# Altium schematic symbol library ProtoStack_H750VBT.SchLib: 84 symbols
Pins are listed as number, name and electrical type; pins without a type are passive.

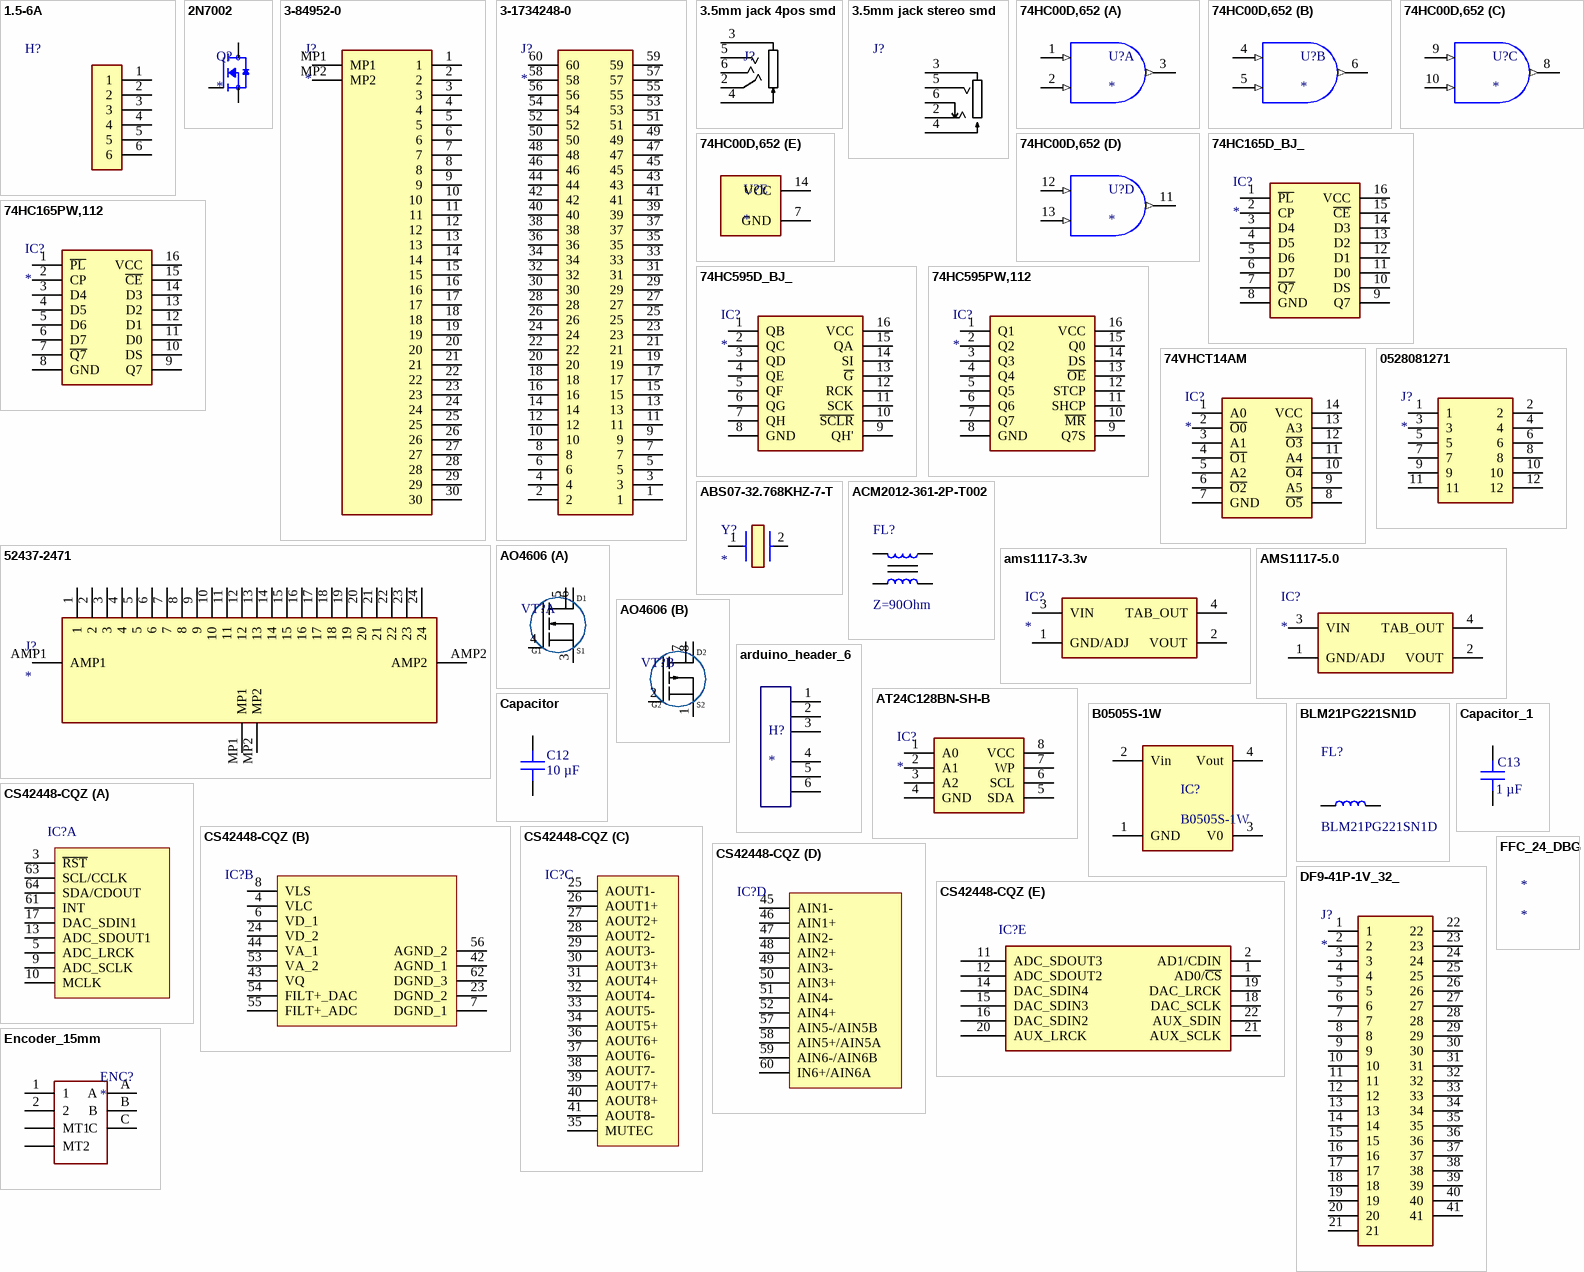
[diagram p0: symbols 1.5-6A to FFC_24_DBG]

## 1.5-6A
designator H?  (value not drawn)
Pin Header p=1.5mm, 6 pins
footprint 1.5-6A (Pin Header p=1.5mm, 6 pins)
pins: 1, 2, 3, 4, 5, 6

## 2N7002
designator Q?
MOSFET, SOT-23, N, 60V, 0.28A, 5â„¦, 150Â°C; MF: Diotec Semiconductor; MP: 2N7002; SnapEDA_Link: https://www.snapeda.com/parts/2N7002/Diotec/view-part/?ref=snap; Package: SOT-23 Diotec; Value: *; Check_prices: https://www.snapeda.com/parts/2N7002/Diotec/view-part/?ref=eda
footprint TRANS_2N7002
pins: 1 G, 2 S, 3 D

## 3-84952-0
designator J?
Connector; Manufacturer_Name: TE Connectivity; Manufacturer_Part_Number: 3-84952-0; Datasheet Link: https://www.te.com/commerce/DocumentDelivery/DDEController?Action=showdoc&DocId=Customer+Drawing%7F84952%7FA4%7Fpdf%7FEnglish%7FENG_CD_84952_A4.pdf%7F3-84952-0; Height: 2.74mm; Mouser Part Number: 571-3-84952-0; Mouser Price/Stock: https://www.mouser.com/Search/Refine.aspx?Keyword=571-3-84952-0
footprint 3849520
pins: 1, 2, 3, 4, 5, 6, 7, 8, 9, 10, 11, 12, 13, 14, 15, 16, 17, 18, 19, 20, 21, 22, 23, 24, 25, 26, 27, 28, 29, 30, MP1, MP2

## 3-1734248-0
designator J?
Connector; Manufacturer_Name: TE Connectivity; Manufacturer_Part_Number: 3-1734248-0; Datasheet Link: https://www.te.com/commerce/DocumentDelivery/DDEController?Action=srchrtrv&DocNm=5-1773461-0_Standard_FPC_Connectors_QRG&DocType=Data%20Sheet&DocLang=English&PartCntxt=3-1734248-0&DocFormat=pdf; Height: 7.7mm; Mouser Part Number: 571-3-1734248-0; Mouser Price/Stock: https://www.mouser.co.uk/ProductDetail/TE-Connectivity/3-1734248-0?qs=rVE9j%252BL6g1a4TQRjUuGYiA%3D%3D; Arrow Part Number: 3-1734248-0; Arrow Price/Stock: https://www.arrow.com/en/products/3-1734248-0/te-connectivity
footprint 317342480
pins: 1, 2, 3, 4, 5, 6, 7, 8, 9, 10, 11, 12, 13, 14, 15, 16, 17, 18, 19, 20, 21, 22, 23, 24, 25, 26, 27, 28, 29, 30, 31, 32, 33, 34, 35, 36, 37, 38, 39, 40, 41, 42, 43, 44, 45, 46, 47, 48, 49, 50, 51, 52, 53, 54, 55, 56, 57, 58, 59, 60

## 3.5mm jack 4pos smd
designator J?, comment PJ-327F  (value not drawn)
PJ-327F 4 contacts 5 pins 1 sw
footprint PJ-327F
pins: 2 G, 3 G, 4 Gsw, 5 R, 6 L

## 3.5mm jack stereo smd
designator J?, comment 35RASMT2BHNTRX  (value not drawn)
Conn 3.5MM Stereo Jack F 3 POS Solder RA SMD 3 Terminal 1 Port T/R PJ-327; MF: Switchcraft; MP: 35RASMT2BHNTRX; Package: None; Price: 0.84 USD; Availability: Good; SnapEDA_Link: https://www.snapeda.com/parts/35RASMT2BHNTRX/Switchcraft%20Inc./view-part/?ref=snap; Value: *
footprint PJ_327
pins: 2, 3 1, 4 5, 5 3, 6 4

## 74HC00D,652
designator U?
NAND Gate IC 4 Channel - 14-SO; MF: Nexperia USA; MP: 74HC00D,652; SnapEDA_Link: https://www.snapeda.com/parts/74HC00D,652/Nexperia/view-part/?ref=snap; Package: SO14-14 Nexperia USA Inc.; Value: *; Check_prices: https://www.snapeda.com/parts/74HC00D,652/Nexperia/view-part/?ref=eda
footprint SOP125P600X175-14N
part A pins: 1 1A (in), 2 1B (in), 3 1Y (out)
part B pins: 4 2A (in), 5 2B (in), 6 2Y (out)
part C pins: 8 3Y (out), 9 3A (in), 10 3B (in)
part D pins: 11 4Y (out), 12 4A (in), 13 4B (in)
part E pins: 7 GND (power), 14 VCC (power)

## 74HC165D_BJ_
designator IC?
Integrated Circuit; Manufacturer_Name: Toshiba; Manufacturer_Part_Number: 74HC165D(BJ); Datasheet Link: https://www.arrow.com/en/products/74hc165d-bj/toshiba?region=nac; Height: 1.75mm; Mouser Part Number: 757-74HC165DBJ; Mouser Price/Stock: https://www.mouser.co.uk/ProductDetail/Toshiba/74HC165DBJ?qs=lQAVKuKFhkJom8fGze1o7Q%3D%3D; Arrow Part Number: 74HC165D(BJ); Arrow Price/Stock: https://www.arrow.com/en/products/74hc165d-bj/toshiba?region=nac
footprint SOIC127P600X175-16N
pins: 1 ~{PL}, 2 CP, 3 D4, 4 D5, 5 D6, 6 D7, 7 ~{Q7}, 8 GND, 9 Q7, 10 DS, 11 D0, 12 D1, 13 D2, 14 D3, 15 ~{CE}, 16 VCC

## 74HC165PW,112
designator IC?
Integrated Circuit; Manufacturer_Name: Nexperia; Manufacturer_Part_Number: 74HC165PW,112; Datasheet Link: https://assets.nexperia.com/documents/data-sheet/74HC_HCT165.pdf; Height: 1.1mm; Mouser Part Number: 771-HC165PW112; Mouser Price/Stock: https://www.mouser.com/Search/Refine.aspx?Keyword=771-HC165PW112; Arrow Part Number: 74HC165PW,112; Arrow Price/Stock: https://www.arrow.com/en/products/74hc165pw112/nexperia
footprint SOP65P640X110-16N
pins: 1 ~{PL}, 2 CP, 3 D4, 4 D5, 5 D6, 6 D7, 7 ~{Q7}, 8 GND, 9 Q7, 10 DS, 11 D0, 12 D1, 13 D2, 14 D3, 15 ~{CE}, 16 VCC

## 74HC595D_BJ_
designator IC?
Integrated Circuit; Manufacturer_Name: Toshiba; Manufacturer_Part_Number: 74HC595D(BJ); Datasheet Link: https://componentsearchengine.com/Datasheets/1/74HC595D(BJ).pdf; Height: 1.75mm; Mouser Part Number: 757-74HC595DBJ; Mouser Price/Stock: https://www.mouser.co.uk/ProductDetail/Toshiba/74HC595DBJ?qs=T%2FywbITssnTkqd02WdSNRg%3D%3D; Arrow Part Number: 74HC595D(BJ); Arrow Price/Stock: https://www.arrow.com/en/products/74hc595d-bj/toshiba?region=nac
footprint SOIC127P600X175-16N
pins: 1 QB, 2 QC, 3 QD, 4 QE, 5 QF, 6 QG, 7 QH, 8 GND, 9 QH', 10 ~{SCLR}, 11 SCK, 12 RCK, 13 ~{G}, 14 SI, 15 QA, 16 VCC

## 74HC595PW,112
designator IC?
Integrated Circuit; Manufacturer_Name: Nexperia; Manufacturer_Part_Number: 74HC595PW,112; Datasheet Link: https://assets.nexperia.com/documents/data-sheet/74HC_HCT595.pdf; Height: 1.1mm; Mouser Part Number: 771-HC595PW112; Mouser Price/Stock: https://www.mouser.co.uk/ProductDetail/Nexperia/74HC595PW112?qs=P62ublwmbi%252BCa4lw1q3VNw%3D%3D; Arrow Part Number: 74HC595PW,112; Arrow Price/Stock: https://www.arrow.com/en/products/74hc595pw112/nexperia?region=nac
footprint SOP65P640X110-16N
pins: 1 Q1, 2 Q2, 3 Q3, 4 Q4, 5 Q5, 6 Q6, 7 Q7, 8 GND, 9 Q7S, 10 ~{MR}, 11 SHCP, 12 STCP, 13 ~{OE}, 14 DS, 15 Q0, 16 VCC

## 74VHCT14AM
designator IC?
Integrated Circuit; Manufacturer_Name: onsemi; Manufacturer_Part_Number: 74VHCT14AM; Datasheet Link: https://docs.rs-online.com/5e2e/0900766b812cf5b5.pdf; Height: 1.75mm; Mouser Part Number: 512-74VHCT14AM; Mouser Price/Stock: https://www.mouser.com/Search/Refine.aspx?Keyword=512-74VHCT14AM; Arrow Part Number: 74VHCT14AM; Arrow Price/Stock: https://www.arrow.com/en/products/74vhct14am/on-semiconductor
footprint SOIC127P600X175-14N
pins: 1 A0, 2 ~{O0}, 3 A1, 4 ~{O1}, 5 A2, 6 ~{O2}, 7 GND, 8 ~{O5}, 9 A5, 10 ~{O4}, 11 A4, 12 ~{O3}, 13 A3, 14 VCC

## 52437-2471
designator J?
Connector; Manufacturer_Name: Molex; Manufacturer_Part_Number: 52437-2471; Datasheet Link: https://componentsearchengine.com/Datasheets/2/52437-2471.pdf; Height: 2mm; Mouser Part Number: 538-52437-2471; Mouser Price/Stock: https://www.mouser.co.uk/ProductDetail/Molex/52437-2471?qs=nDwhpid8gJZdpyQIeZfjsA%3D%3D
footprint 524372471
pins: 1, 2, 3, 4, 5, 6, 7, 8, 9, 10, 11, 12, 13, 14, 15, 16, 17, 18, 19, 20, 21, 22, 23, 24, AMP1, AMP2, MP1, MP2

## 0528081271
designator J?
Connector; Manufacturer_Name: Molex; Manufacturer_Part_Number: 0528081271; Datasheet Link: https://www.molex.com/pdm_docs/sd/528082071_sd.pdf; Height: 5.3mm
footprint 0528081271
footprint AFA11-S12GLA-00
pins: 1, 2, 3, 4, 5, 6, 7, 8, 9, 10, 11, 12

## ABS07-32.768KHZ-7-T
designator Y?
Crystal or Oscillator; Manufacturer_Name: ABRACON; Manufacturer_Part_Number: ABS07-32.768KHZ-7-T; Datasheet Link: https://abracon.com/Resonators/ABS07.pdf; Height: 0.9mm; Mouser Part Number: 815-ABS07-32.768K7T; Mouser Price/Stock: https://www.mouser.co.uk/ProductDetail/ABRACON/ABS07-32.768KHZ-7-T?qs=2nyfZ6BV3oibNEFok2qBLA%3D%3D; Arrow Part Number: ABS07-32.768KHZ-7-T; Arrow Price/Stock: https://www.arrow.com/en/products/abs07-32.768khz-7-t/abracon?region=nac
footprint ABS07
pins: 1, 2

## ACM2012-361-2P-T002
designator FL?, comment Z=90Ohm
ACM Series 0805 360 Ohm 220mA 500 mOhm DCR 50 V SMT Common Mode Filter; MP: ACM2012-361-2P-T002; MF: TDK; Price: 0.24 USD; Package: None; Availability: Good; Value: *
footprint FIL_ACM2012-361-2P-T002
pins: 1, 2, 3, 4

## ams1117-3.3v
designator IC?
Integrated Circuit; Manufacturer_Name: Advanced Monolithic Systems; Manufacturer_Part_Number: ams1117-3.3v; Datasheet Link: http://www.advanced-monolithic.com/pdf/ds1117.pdf; Height: 1.8mm; Supplier 1: LCSC
footprint SOT-223
footprint SOT-89
pins: 1 GND/ADJ, 2 VOUT, 3 VIN, 4 TAB_OUT

## AMS1117-5.0
designator IC?
Integrated Circuit; Manufacturer_Name: Advanced Monolithic Systems; Manufacturer_Part_Number: AMS1117-5.0; Datasheet Link: http://www.advanced-monolithic.com/pdf/ds1117.pdf; Height: 1.8mm
footprint SOT-223
footprint SOT-89
pins: 1 GND/ADJ, 2 VOUT, 3 VIN, 4 TAB_OUT

## AO4606
designator VT?  (value not drawn)
MOSFET N+P-channel; Manufacturer_Name: Alpha & Omega Semiconductors; Datasheet Link: https://datasheet.datasheetarchive.com/originals/distributors/Datasheets-AOS/DSAAOS100079.pdf; Height: 1.75mm; Manufacturer_Part_Number: AO4606; Arrow Part Number: AO4606; Arrow Price/Stock: https://www.arrow.com/en/products/ao4606/alpha-and-omega-semiconductor?region=nac
footprint SOIC127P600X175-8N
part A pins: 3 S1, 4 G1, 5 D1, 6 D1
part B pins: 1 S2, 2 G2, 7 D2, 8 D2

## arduino_header_6
designator H?
footprint header-6_male
footprint header-6_female
pins: 1, 2, 3, 4, 5, 6

## AT24C128BN-SH-B
designator IC?
Integrated Circuit; Manufacturer_Name: Microchip; Manufacturer_Part_Number: AT24C128BN-SH-B; Datasheet Link: https://componentsearchengine.com/Datasheets/1/AT24C128BN-SH-B.pdf; Height: 1.75mm; Mouser Part Number: 556-A24C128BNSH-B; Mouser Price/Stock: https://www.mouser.co.uk/ProductDetail/Microchip-Technology-Atmel/AT24C128BN-SH-B?qs=j6lVIf5KywAfpl9r4qbAuQ%3D%3D
footprint SOIC127P600X175-8N
pins: 1 A0, 2 A1, 3 A2, 4 GND, 5 SDA, 6 SCL, 7 WP, 8 VCC

## B0505S-1W
designator IC?
Mournsun / JGCRYT DC-DC isolated converter module 5v -> 5v 1W
footprint B0505S-1W (DC-DC module)
pins: 1 GND, 2 Vin, 3 V0, 4 Vout

## BLM21PG221SN1D
designator FL?
ACM Series 0805 360 Ohm 220mA 500 mOhm DCR 50 V SMT Common Mode Filter
footprint 0805_IND
pins: 1, 2

## Capacitor
designator C12, comment 10 µF
CAP CER 10UF 10V X5R 0805; Part Number: C0805C106K8PAC7800; manufacturer: KEMET; Tolerance: ±10%; Applications: Bypass, Decoupling; Capacitance: 10 µF; componentlink1description: Datasheet; componentlink1url: https://connect.kemet.com:7667/gateway/IntelliData-ComponentDocumentation/1.0/download/datasheet/C0805C106K8PACTU; componentlink2description: DigiKey Link; componentlink2url: https://www.digikey.com/en/products/detail/kemet/C0805C106K8PAC7800/1090830; Device Package: 0805 (2012 Metric); lastupdated: 9/14/2022 7:51:56 AM; Lifecycle Status: Active; Minimum Order: 1; Mounting Type: Surface Mount, MLCC; Operating Temperature: -55°C ~ 85°C; Package / Case: 0805 (2012 Metric); packaging: TapeAndReel; partid: 44790; Part Status: Active; price: 0.02; series: SMD Comm X5R; Size / Dimension: 0.079" L x 0.049" W (2.00mm x 1.25mm); Supplier 1: DigiKey; Supplier Part Number 1: 399-C0805C106K8PAC7800CT-ND; Temperature Coefficient: X5R; Thickness (Max): 0.055" (1.40mm); Voltage - Rated: 10V; Value: 10 µF
footprint CAP 0805_2012
pins: 1, 2

## Capacitor_1
designator C13, comment 1 µF
CAP CER 1UF 16V X7R 0805; Part Number: C0805C105K4RAC7800; manufacturer: KEMET; Tolerance: ±10%; Applications: Bypass, Decoupling; Capacitance: 1 µF; componentlink1description: Datasheet; componentlink1url: https://api.kemet.com/component-edge/download/datasheet/C0805C105K4RACTU.pdf; componentlink2description: DigiKey Link; componentlink2url: https://www.digikey.com/en/products/detail/kemet/C0805C105K4RAC7800/416047; Device Package: 0805 (2012 Metric); lastupdated: 9/19/2022 1:03:30 PM; Lifecycle Status: Active; Minimum Order: 1; Mounting Type: Surface Mount, MLCC; Operating Temperature: -55°C ~ 125°C; Package / Case: 0805 (2012 Metric); packaging: TapeAndReel; partid: 32075; Part Status: Active; price: 0.01; series: SMD Comm X7R; Size / Dimension: 0.079" L x 0.049" W (2.00mm x 1.25mm); Supplier 1: DigiKey; Supplier Part Number 1: 399-C0805C105K4RAC7800CT-ND; Temperature Coefficient: X7R; Thickness (Max): 0.039" (1.00mm); Voltage - Rated: 16V; Value: 1 µF
footprint CAP 0805_2012
pins: 1, 2

## CS42448-CQZ
designator IC?  (value not drawn)
Integrated Circuit; Manufacturer_Name: Cirrus Logic; Manufacturer_Part_Number: CS42448-CQZ; Datasheet Link: http://www.mouser.com/datasheet/2/76/CS42448_F5-1141475.pdf; Height: 1.6mm; Mouser Part Number: 777-CS42448-CQZ; Mouser Price/Stock: https://www.mouser.co.uk/ProductDetail/Cirrus-Logic/CS42448-CQZ?qs=bUPhaerQQeGUnfo%252BYCcmZw%3D%3D
footprint QFP50P1200X1200X160-64N
part A pins: 3 ~{RST}, 5 ADC_LRCK, 9 ADC_SCLK, 10 MCLK, 13 ADC_SDOUT1, 17 DAC_SDIN1, 61 INT, 63 SCL/CCLK, 64 SDA/CDOUT
part B pins: 4 VLC, 6 VD_1, 7 DGND_1, 8 VLS, 23 DGND_2, 24 VD_2, 42 AGND_1, 43 VQ, 44 VA_1, 53 VA_2, 54 FILT+_DAC, 55 FILT+_ADC, 56 AGND_2, 62 DGND_3
part C pins: 25 AOUT1-, 26 AOUT1+, 27 AOUT2+, 28 AOUT2-, 29 AOUT3-, 30 AOUT3+, 31 AOUT4+, 32 AOUT4-, 33 AOUT5-, 34 AOUT5+, 35 MUTEC, 36 AOUT6+, 37 AOUT6-, 38 AOUT7-, 39 AOUT7+, 40 AOUT8+, 41 AOUT8-
part D pins: 45 AIN1-, 46 AIN1+, 47 AIN2-, 48 AIN2+, 49 AIN3-, 50 AIN3+, 51 AIN4-, 52 AIN4+, 57 AIN5-/AIN5B, 58 AIN5+/AIN5A, 59 AIN6-/AIN6B, 60 IN6+/AIN6A
part E pins: 1 AD0/~{CS}, 2 AD1/CDIN, 11 ADC_SDOUT3, 12 ADC_SDOUT2, 14 DAC_SDIN4, 15 DAC_SDIN3, 16 DAC_SDIN2, 18 DAC_SCLK, 19 DAC_LRCK, 20 AUX_LRCK, 21 AUX_SCLK, 22 AUX_SDIN

## DF9-41P-1V_32_
designator J?
Connector; Manufacturer_Name: Hirose; Manufacturer_Part_Number: DF9-41P-1V(32); Datasheet Link: http://componentsearchengine.com/Datasheets/1/DF9-41P-1V(32).pdf; Mouser Part Number: 798-DF9-41P-1V32; Mouser Price/Stock: https://www.mouser.co.uk/ProductDetail/Hirose-Connector/DF9-41P-1V32?qs=zOgoZG1CgI%252BzVCgniEkwOw%3D%3D; Arrow Part Number: DF9-41P-1V(32); Arrow Price/Stock: https://www.arrow.com/en/products/df9-41p-1v-32/hirose-electric
footprint HIROSE_DF9-41P-1V(32)
pins: 1, 2, 3, 4, 5, 6, 7, 8, 9, 10, 11, 12, 13, 14, 15, 16, 17, 18, 19, 20, 21, 22, 23, 24, 25, 26, 27, 28, 29, 30, 31, 32, 33, 34, 35, 36, 37, 38, 39, 40, 41

## Encoder_15mm
designator ENC?
footprint EC11_15mm
pins: 1, 2, A, B, C, MT1, MT2

## FFC_24_DBG
designator *

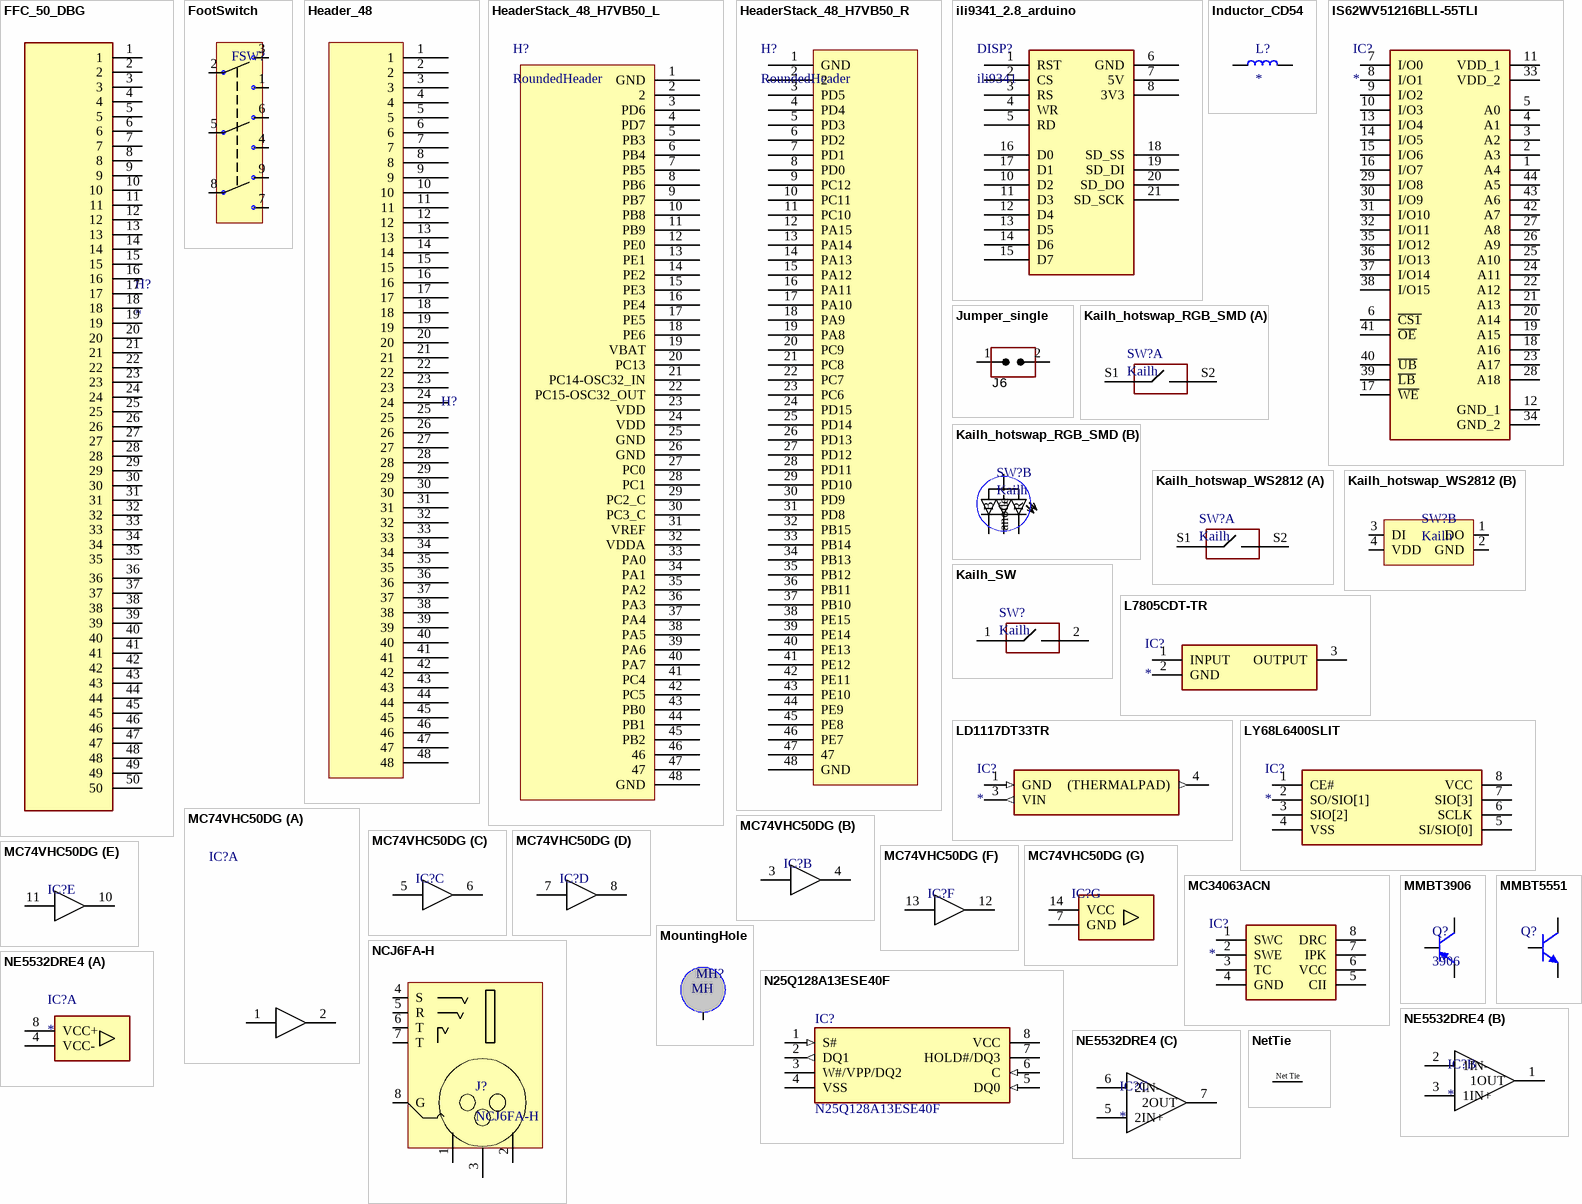
[diagram p1: symbols FFC_50_DBG to NetTie]

## FFC_50_DBG
designator H?
footprint FFC_50_DBG
footprint EDGE_PAD_50
pins: 1, 2, 3, 4, 5, 6, 7, 8, 9, 10, 11, 12, 13, 14, 15, 16, 17, 18, 19, 20, 21, 22, 23, 24, 25, 26, 27, 28, 29, 30, 31, 32, 33, 34, 35, 36, 37, 38, 39, 40, 41, 42, 43, 44, 45, 46, 47, 48, 49, 50

## FootSwitch
designator FSW?  (value not drawn)
footprint FOOTSW
pins: 1, 2, 3, 4, 5, 6, 7, 8, 9

## Header_48
designator H?, comment male pin header  (value not drawn)
footprint Header_48
pins: 1, 2, 3, 4, 5, 6, 7, 8, 9, 10, 11, 12, 13, 14, 15, 16, 17, 18, 19, 20, 21, 22, 23, 24, 25, 26, 27, 28, 29, 30, 31, 32, 33, 34, 35, 36, 37, 38, 39, 40, 41, 42, 43, 44, 45, 46, 47, 48

## HeaderStack_48_H7VB50_L
designator H?, comment RoundedHeader
footprint HeaderDtack_48
pins: 1 GND, 2, 3 PD6, 4 PD7, 5 PB3, 6 PB4, 7 PB5, 8 PB6, 9 PB7, 10 PB8, 11 PB9, 12 PE0, 13 PE1, 14 PE2, 15 PE3, 16 PE4, 17 PE5, 18 PE6, 19 VBAT, 20 PC13, 21 PC14-OSC32_IN, 22 PC15-OSC32_OUT, 23 VDD, 24 VDD, 25 GND, 26 GND, 27 PC0, 28 PC1, 29 PC2_C, 30 PC3_C, 31 VREF, 32 VDDA, 33 PA0, 34 PA1, 35 PA2, 36 PA3, 37 PA4, 38 PA5, 39 PA6, 40 PA7, 41 PC4, 42 PC5, 43 PB0, 44 PB1, 45 PB2, 46, 47, 48 GND

## HeaderStack_48_H7VB50_R
designator H?, comment RoundedHeader
footprint HeaderDtack_48
pins: 1 GND, 2, 3 PD5, 4 PD4, 5 PD3, 6 PD2, 7 PD1, 8 PD0, 9 PC12, 10 PC11, 11 PC10, 12 PA15, 13 PA14, 14 PA13, 15 PA12, 16 PA11, 17 PA10, 18 PA9, 19 PA8, 20 PC9, 21 PC8, 22 PC7, 23 PC6, 24 PD15, 25 PD14, 26 PD13, 27 PD12, 28 PD11, 29 PD10, 30 PD9, 31 PD8, 32 PB15, 33 PB14, 34 PB13, 35 PB12, 36 PB11, 37 PB10, 38 PE15, 39 PE14, 40 PE13, 41 PE12, 42 PE11, 43 PE10, 44 PE9, 45 PE8, 46 PE7, 47, 48 GND

## ili9341_2.8_arduino
designator DISP?, comment ili9341
footprint ili9341_2.8_arduino
pins: 1 RST, 2 CS, 3 RS, 4 WR, 5 RD, 6 GND, 7 5V, 8 3V3, 10 D2, 11 D3, 12 D4, 13 D5, 14 D6, 15 D7, 16 D0, 17 D1, 18 SD_SS, 19 SD_DI, 20 SD_DO, 21 SD_SCK

## Inductor_CD54
designator L?
Aliexpress CD54 type inductor
footprint IND_CD54
pins: 1, 2

## IS62WV51216BLL-55TLI
designator IC?
Integrated Circuit; Manufacturer_Name: Integrated Silicon Solution Inc.; Manufacturer_Part_Number: IS62WV51216BLL-55TLI; Datasheet Link: https://componentsearchengine.com/Datasheets/2/IS62WV51216BLL-55TLI.pdf; Height: 1.2mm; Mouser Part Number: 87062WV51216BLL55TLI; Mouser Price/Stock: https://www.mouser.co.uk/ProductDetail/ISSI/IS62WV51216BLL-55TLI?qs=YdQ7Kj7W0byDjYr5MgPCkw%3D%3D; Arrow Part Number: IS62WV51216BLL-55TLI; Arrow Price/Stock: https://www.arrow.com/en/products/is62wv51216bll-55tli/integrated-silicon-solution-inc
footprint SOP80P1176X120-44N
pins: 1 A4, 2 A3, 3 A2, 4 A1, 5 A0, 6 ~{CS1}, 7 I/O0, 8 I/O1, 9 I/O2, 10 I/O3, 11 VDD_1, 12 GND_1, 13 I/O4, 14 I/O5, 15 I/O6, 16 I/O7, 17 ~{WE}, 18 A16, 19 A15, 20 A14, 21 A13, 22 A12, 23 A17, 24 A11, 25 A10, 26 A9, 27 A8, 28 A18, 29 I/O8, 30 I/O9, 31 I/O10, 32 I/O11, 33 VDD_2, 34 GND_2, 35 I/O12, 36 I/O13, 37 I/O14, 38 I/O15, 39 ~{LB}, 40 ~{UB}, 41 ~{OE}, 42 A7, 43 A6, 44 A5

## Jumper_single
designator J6
CommentText: "Перемычка"
footprint CON: JUMPER x1
footprint CON: PLS-2
pins: 1 IN, 2 IN

## Kailh_hotswap_RGB_SMD
designator SW?, comment Kailh
Kailh keyboard switch, hotswap rgb, dual-side hotswap options + low prifile variant
footprint KAILH_MX_SOCKET_smdRGB
footprint KAILH_UNI_MX_smdRGB (Universal footprint for low-profile and regular switches, direct solder. Kailh RGB Black also supported without led)
part A pins: S1 1, S2 2
part B pins: 1 R, 2 G, 3 anode, 4 B

## Kailh_hotswap_WS2812
designator SW?, comment Kailh
Kailh keyboard switch, hotswap rgb, dual-side hotswap options + low prifile variant
footprint KAILH_UNI_MX_WS2812 (Universal footprint for low-profile and regular switches, direct solder. Kailh RGB Black also supported without led, LED is ws2812 in 2020 package)
part A pins: S1 1, S2 2
part B pins: 1 DO, 2 GND, 3 DI, 4 VDD

## Kailh_SW
designator SW?, comment Kailh
Kailh keyboard switch
footprint Kailh_Low
footprint Kailh_RGB
pins: 1, 2

## L7805CDT-TR
designator IC?
Integrated Circuit; Manufacturer_Name: STMicroelectronics; Manufacturer_Part_Number: L7805CDT-TR; Datasheet Link: https://componentsearchengine.com/Datasheets/2/L7805CDT-TR.pdf; Height: 2.63mm; Mouser Part Number: 511-L7805CDT-TR; Mouser Price/Stock: https://www.mouser.co.uk/ProductDetail/STMicroelectronics/L7805CDT-TR?qs=gq%2F78KzUDX67VndS%2FbSB4Q%3D%3D; Arrow Part Number: L7805CDT-TR; Arrow Price/Stock: https://www.arrow.com/en/products/l7805cdt-tr/stmicroelectronics?region=europe
footprint L7805CDTTR
pins: 1 INPUT, 2 GND, 3 OUTPUT

## LD1117DT33TR
designator IC?
Integrated Circuit; Manufacturer_Name: STMicroelectronics; Manufacturer_Part_Number: LD1117DT33TR; Datasheet Link: http://www.st.com/web/en/resource/technical/document/datasheet/CD00000544.pdf; Height: 2.4mm; Mouser Part Number: 511-LD1117DT33-TR; Mouser Price/Stock: https://www.mouser.co.uk/ProductDetail/STMicroelectronics/LD1117DT33TR?qs=4JhUBQGAOSd4P5jVYGxp2g%3D%3D; Arrow Part Number: LD1117DT33TR; Arrow Price/Stock: https://www.arrow.com/en/products/ld1117dt33tr/stmicroelectronics?region=nac
footprint TO228P972X240-3N
pins: 1 GND (in), 3 VIN (out), 4 (THERMALPAD) (out)

## LY68L6400SLIT
designator IC?
Integrated Circuit; Manufacturer_Name: Lyontek Inc.; Manufacturer_Part_Number: LY68L6400SLIT; Datasheet Link: https://datasheet.lcsc.com/szlcsc/Lyontek-Inc-LY68L6400SLIT_C261881.pdf; Height: 1.75mm
footprint SOIC127P600X175-8N
pins: 1 CE#, 2 SO/SIO[1], 3 SIO[2], 4 VSS, 5 SI/SIO[0], 6 SCLK, 7 SIO[3], 8 VCC

## MC74VHC50DG
designator IC?  (value not drawn)
Integrated Circuit; Manufacturer_Name: onsemi; Manufacturer_Part_Number: MC74VHC50DG; Datasheet Link: http://www.onsemi.com/pub/Collateral/MC74VHC50-D.PDF; Height: 1.75mm; Mouser Part Number: 863-MC74VHC50DG; Mouser Price/Stock: https://www.mouser.com/Search/Refine.aspx?Keyword=863-MC74VHC50DG
footprint SOIC127P600X175-14N
part A pins: 1 A1, 2 Y1
part B pins: 3 A2, 4 Y2
part C pins: 5 A3, 6 Y3
part D pins: 7 A4, 8 Y4
part E pins: 10 Y5, 11 A5
part F pins: 12 Y6, 13 A6
part G pins: 7 GND, 14 VCC

## MC34063ACN
designator IC?
Integrated Circuit; Manufacturer_Name: STMicroelectronics; Manufacturer_Part_Number: MC34063ACN; Datasheet Link: http://www.st.com/web/en/resource/technical/document/datasheet/CD00001232.pdf; Height: 4.8mm; Mouser Part Number: 511-MC34063ACN; Mouser Price/Stock: https://www.mouser.co.uk/ProductDetail/STMicroelectronics/MC34063ACN?qs=9NrABl3fj%2FpdpcH%2FE0gWdg%3D%3D; Arrow Part Number: MC34063ACN; Arrow Price/Stock: https://www.arrow.com/en/products/mc34063acn/stmicroelectronics?region=europe
footprint DIP762W50P254L980H480Q8N
footprint SOIC127P600X175-8N
pins: 1 SWC, 2 SWE, 3 TC, 4 GND, 5 CII, 6 VCC, 7 IPK, 8 DRC

## MMBT3906
designator Q?, comment 3906
footprint SOT-23
pins: 1 B, 2 E, 3 C

## MMBT5551
designator Q?  (value not drawn)
footprint SOT-23
pins: 1 B, 2 E, 3 C

## MountingHole
designator MH?
footprint Hole_2.5mm
footprint Hole_3mm
pins: 0
text: MH

## N25Q128A13ESE40F
designator IC?
Integrated Circuit; Manufacturer_Name: Micron; Datasheet Link: https://datasheet.datasheetarchive.com/originals/distributors/Datasheets-DGA23/1494983.pdf; Height: 2.16mm; Manufacturer_Part_Number: N25Q128A13ESE40F; Mouser Part Number: 340-182267; Mouser Price/Stock: https://www.mouser.co.uk/ProductDetail/Micron/N25Q128A13ESE40F?qs=taEdVNyAfdHw8xv9Y4zfpQ%3D%3D; Arrow Part Number: N25Q128A13ESE40F; Arrow Price/Stock: https://www.arrow.com/en/products/n25q128a13ese40f/micron-technology
footprint SOIC127P790X216-8N
pins: 1 S# (in), 2 DQ1 (out), 3 W#/VPP/DQ2, 4 VSS (power), 5 DQ0 (in), 6 C (in), 7 HOLD#/DQ3, 8 VCC (power)

## NCJ6FA-H
designator J?
XLR Neutrik NCJ6FA-H
footprint NCJ6FA-H (Neutrik NCJ6FA-H)
footprint ACJC10HL (https://www.digikey.nl/en/products/detail/amphenol-sine-systems-corp/ACJC10HL-BULK/13577736?s=N4IgTCBcDaIIIGEBSCCMAGAEgGRAXQF8g)
pins: 1, 2, 3, 4 S, 5 R, 6 T, 7 T, 8 G

## NE5532DRE4
designator IC?
Integrated Circuit; Manufacturer_Name: Texas Instruments; Manufacturer_Part_Number: NE5532DRE4; Datasheet Link: https://www.ti.com/lit/ds/symlink/ne5532.pdf?HQS=dis-mous-null-mousermode-dsf-pf-null-wwe&ts=1618482303902&ref_url=https%253A%252F%252Fwww.mouser.com%252F; Height: 1.75mm; Mouser Part Number: 595-NE5532DRE4; Mouser Price/Stock: https://www.mouser.co.uk/ProductDetail/Texas-Instruments/NE5532DRE4?qs=7nS3%252BbEUL6spPf9Rt7S6cg%3D%3D; Arrow Part Number: NE5532DRE4; Arrow Price/Stock: https://www.arrow.com/en/products/ne5532dre4/texas-instruments
footprint SOIC127P600X175-8N
part A pins: 4 VCC-, 8 VCC+
part B pins: 1 1OUT, 2 1IN-, 3 1IN+
part C pins: 5 2IN+, 6 2IN-, 7 2OUT

## NetTie
designator NT?  (value not drawn)  (net tie, no BOM)
footprint NetTie11
pins: 1 30, 2 31
text: Net Tie

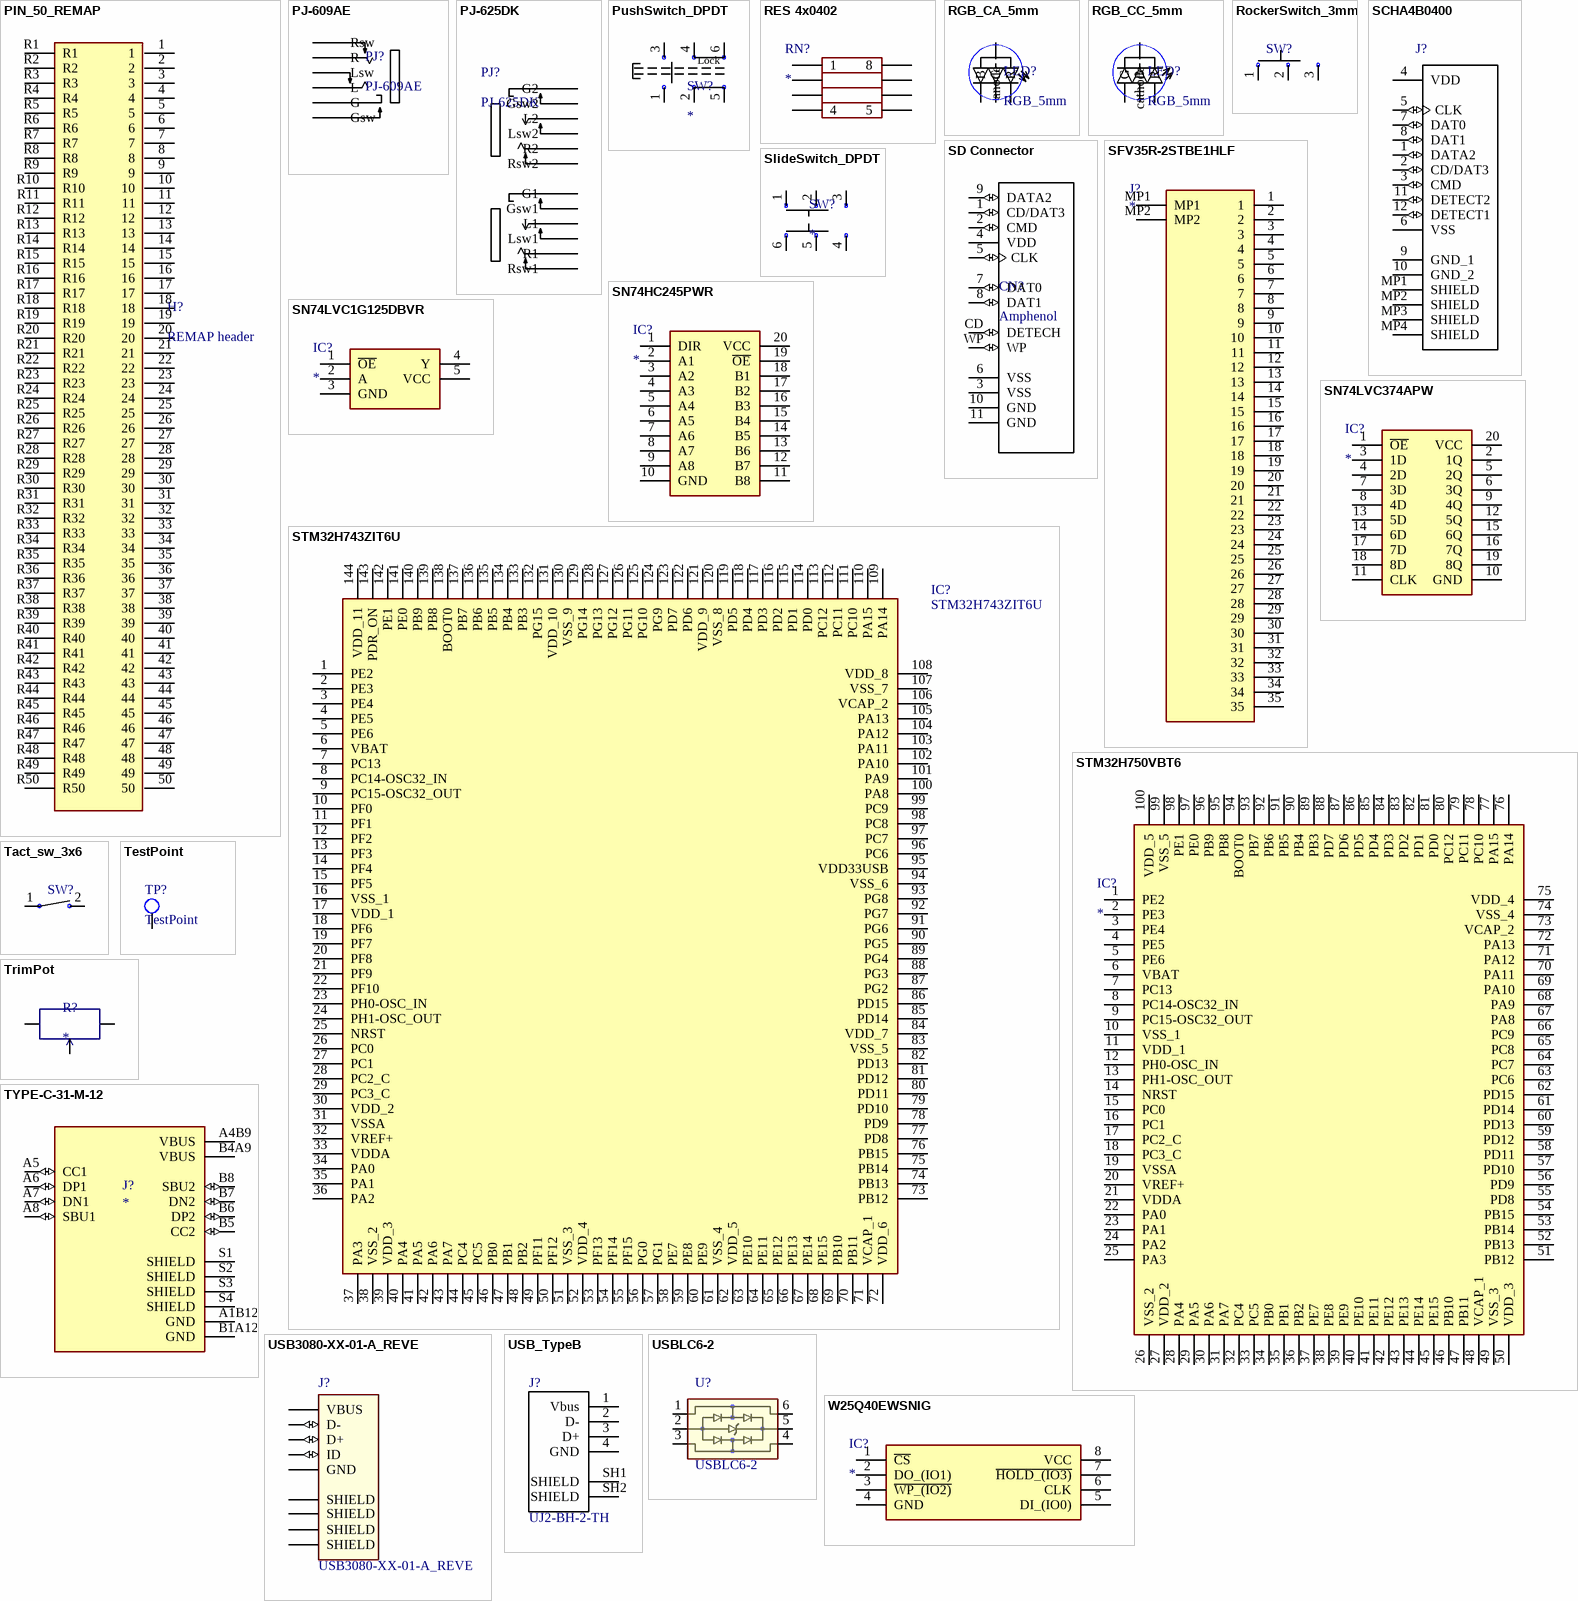
[diagram p2: symbols PIN_50_REMAP to W25Q40EWSNIG]

## PIN_50_REMAP
designator H?, comment REMAP header
footprint REMAP_50
pins: 1, 2, 3, 4, 5, 6, 7, 8, 9, 10, 11, 12, 13, 14, 15, 16, 17, 18, 19, 20, 21, 22, 23, 24, 25, 26, 27, 28, 29, 30, 31, 32, 33, 34, 35, 36, 37, 38, 39, 40, 41, 42, 43, 44, 45, 46, 47, 48, 49, 50, R1, R2, R3, R4, R5, R6, R7, R8, R9, R10, R11, R12, R13, R14, R15, R16, R17, R18, R19, R20, R21, R22, R23, R24, R25, R26, R27, R28, R29, R30, R31, R32, R33, R34, R35, R36, R37, R38, R39, R40, R41, R42, R43, R44, R45, R46, R47, R48, R49, R50

## PJ-609AE
designator PJ?
6.3mm jack HOOYA
footprint PJ609AE (HOOYA)
pins: 2 G, 3 Gsw, 4 R, 5 Rsw, 6 L, 7 Lsw

## PJ-625DK
designator PJ?
6.3mm jack HOOYA
footprint PJ-625CK (HOOYA PJ-625CK)
pins: 2 G1, 3 Gsw1, 4 R1, 5 Rsw1, 6 L1, 7 Lsw1, 22 G2, 23 Gsw2, 24 R2, 25 Rsw2, 26 L2, 27 Lsw2

## PushSwitch_DPDT
designator SW?
footprint TK-6580A-1 (Pushbutton switch)
pins: 1, 2, 3, 4, 5, 6
text: Lock

## RES 4x0402
designator RN?
Resistor Network; Manufacturer_Name: Panasonic; Manufacturer_Part_Number: EXB-N8V101JX; Datasheet Link: https://industrial.panasonic.com/cdbs/www-data/pdf/AOC0000/AOC0000C14.pdf; Height: 0.55mm; Mouser Part Number: 667-EXB-N8V101JX; Mouser Price/Stock: https://www.mouser.co.uk/ProductDetail/Panasonic/EXB-N8V101JX?qs=cttFivMKqWxyXyoXALoehw%3D%3D; Arrow Part Number: EXB-N8V101JX; Arrow Price/Stock: https://www.arrow.com/en/products/exbn8v101jx/panasonic
footprint 4x0402
pins: 1, 2, 3, 4, 5, 6, 7, 8

## RGB_CA_5mm
designator LED?, comment RGB_5mm
footprint LED_RGB_5MM
pins: 1 B, 2 G, 3 anode, 4 R

## RGB_CC_5mm
designator LED?, comment RGB_5mm
footprint LED_RGB_5MM
footprint LED_RGB_5x2.5MM
pins: 1 G, 2 B, 3 cathode, 4 R

## RockerSwitch_3mm
designator SW?
Slide switch L-KLS7-SS-12F19-G5
footprint SLIDE_SW_BIG (My slide switch from chip dip)
pins: 1, 2, 3

## SCHA4B0400
designator J?  (value not drawn)
SD card Connector; Manufacturer_Name: ALPS Electric; Datasheet Link: https://br.mouser.com/datasheet/2/15/SCHA-1155938.pdf; Height: 1.29mm; Manufacturer_Part_Number: SCHA4B0400; Mouser Part Number: 688-SCHA4B0400; Mouser Price/Stock: https://www.mouser.com/Search/Refine.aspx?Keyword=688-SCHA4B0400
footprint SCHA4B0400
pins: 1 DATA2 (io), 2 CD/DAT3 (io), 3 CMD (io), 4 VDD (power), 5 CLK (io), 6 VSS (power), 7 DAT0 (io), 8 DAT1 (io), 9 GND_1, 10 GND_2, 11 DETECT2 (io), 12 DETECT1 (io), MP1 SHIELD, MP2 SHIELD, MP3 SHIELD, MP4 SHIELD

## SD Connector
designator CN?, comment Amphenol
Amphenol 101003136802
footprint SDcard
pins: 1 CD/DAT3 (io), 2 CMD (io), 3 VSS, 4 VDD (power), 5 CLK (io), 6 VSS (power), 7 DAT0 (io), 8 DAT1 (io), 9 DATA2 (io), 10 GND, 11 GND, CD DETECH (io), WP (io)

## SFV35R-2STBE1HLF
designator J?
FFC connectro 35 0.5 top clide lock, footprint compatible to AFC07-S35ECC-00; Manufacturer_Name: Amphenol; Manufacturer_Part_Number: SFV35R-2STBE1HLF; Datasheet Link: https://cdn.amphenol-icc.com/media/wysiwyg/files/drawing/sfv12b_hlf.pdf; Height: 2mm; Mouser Part Number: 649-SFV35R-2STBE1HLF; Mouser Price/Stock: https://www.mouser.co.uk/ProductDetail/Amphenol-FCI/SFV35R-2STBE1HLF/?qs=SqJKR5Mmryc1qodwgcBDPw%3D%3D; Arrow Part Number: SFV35R-2STBE1HLF; Arrow Price/Stock: https://www.arrow.com/en/products/sfv35r-2stbe1hlf/amphenol-fci
footprint SFV35R2STBE1HLF
pins: 1, 2, 3, 4, 5, 6, 7, 8, 9, 10, 11, 12, 13, 14, 15, 16, 17, 18, 19, 20, 21, 22, 23, 24, 25, 26, 27, 28, 29, 30, 31, 32, 33, 34, 35, MP1, MP2

## SlideSwitch_DPDT
designator SW?
footprint SK-22F03-G060 (G-Switch SK-22F03-G060)
pins: 1, 2, 3, 4, 5, 6

## SN74HC245PWR
designator IC?
Integrated Circuit; Manufacturer_Name: Texas Instruments; Manufacturer_Part_Number: SN74HC245PWR; Datasheet Link: http://www.ti.com/lit/gpn/sn74hc245; Height: 1.2mm; Mouser Part Number: 595-SN74HC245PWR; Mouser Price/Stock: https://www.mouser.co.uk/ProductDetail/Texas-Instruments/SN74HC245PWR?qs=JS6RUWRH9DXHcWNikQOotA%3D%3D; Arrow Part Number: SN74HC245PWR; Arrow Price/Stock: https://www.arrow.com/en/products/sn74hc245pwr/texas-instruments?region=nac
footprint SOP65P640X120-20N
pins: 1 DIR, 2 A1, 3 A2, 4 A3, 5 A4, 6 A5, 7 A6, 8 A7, 9 A8, 10 GND, 11 B8, 12 B7, 13 B6, 14 B5, 15 B4, 16 B3, 17 B2, 18 B1, 19 ~{OE}, 20 VCC

## SN74LVC1G125DBVR
designator IC?
Integrated Circuit; Manufacturer_Name: Texas Instruments; Manufacturer_Part_Number: SN74LVC1G125DBVR; Datasheet Link: http://www.ti.com/lit/ds/symlink/sn74lvc1g125.pdf; Height: 1.45mm; Mouser Part Number: 595-SN74LVC1G125DBVR; Mouser Price/Stock: https://www.mouser.co.uk/ProductDetail/Texas-Instruments/SN74LVC1G125DBVR?qs=dT9u2OTAaVWCjkJK89JQQg%3D%3D; Arrow Part Number: SN74LVC1G125DBVR; Arrow Price/Stock: https://www.arrow.com/en/products/sn74lvc1g125dbvr/texas-instruments?region=nac
footprint SOT95P280X145-5N
pins: 1 ~{OE}, 2 A, 3 GND, 4 Y, 5 VCC

## SN74LVC374APW
designator IC?
Integrated Circuit; Manufacturer_Name: Texas Instruments; Manufacturer_Part_Number: SN74LVC374APW; Datasheet Link: http://www.ti.com/lit/gpn/SN74LVC374A; Height: 1.2mm; Mouser Part Number: 595-SN74LVC374APW; Mouser Price/Stock: https://www.mouser.co.uk/ProductDetail/Texas-Instruments/SN74LVC374APW?qs=dT9u2OTAaVV%2F4Pfb13ss%2FA%3D%3D
footprint SOP65P640X120-20N
pins: 1 ~{OE}, 2 1Q, 3 1D, 4 2D, 5 2Q, 6 3Q, 7 3D, 8 4D, 9 4Q, 10 GND, 11 CLK, 12 5Q, 13 5D, 14 6D, 15 6Q, 16 7Q, 17 7D, 18 8D, 19 8Q, 20 VCC

## STM32H743ZIT6U
designator IC?
Integrated Circuit; Manufacturer_Name: STMicroelectronics; Datasheet Link: https://componentsearchengine.com/Datasheets/1/STM32H743ZIT6U.pdf; Height: 1.6mm; Manufacturer_Part_Number: STM32H743ZIT6U; Mouser Part Number: N/A; Mouser Price/Stock: https://www.mouser.co.uk/ProductDetail/STMicroelectronics/STM32H743ZIT6U?qs=PzGy0jfpSMtTUBlZwwPqMQ%3D%3D
footprint QFP50P2200X2200X160-144N
pins: 1 PE2, 2 PE3, 3 PE4, 4 PE5, 5 PE6, 6 VBAT, 7 PC13, 8 PC14-OSC32_IN, 9 PC15-OSC32_OUT, 10 PF0, 11 PF1, 12 PF2, 13 PF3, 14 PF4, 15 PF5, 16 VSS_1, 17 VDD_1, 18 PF6, 19 PF7, 20 PF8, 21 PF9, 22 PF10, 23 PH0-OSC_IN, 24 PH1-OSC_OUT, 25 NRST, 26 PC0, 27 PC1, 28 PC2_C, 29 PC3_C, 30 VDD_2, 31 VSSA, 32 VREF+, 33 VDDA, 34 PA0, 35 PA1, 36 PA2, 37 PA3, 38 VSS_2, 39 VDD_3, 40 PA4, 41 PA5, 42 PA6, 43 PA7, 44 PC4, 45 PC5, 46 PB0, 47 PB1, 48 PB2, 49 PF11, 50 PF12, 51 VSS_3, 52 VDD_4, 53 PF13, 54 PF14, 55 PF15, 56 PG0, 57 PG1, 58 PE7, 59 PE8, 60 PE9, 61 VSS_4, 62 VDD_5, 63 PE10, 64 PE11, 65 PE12, 66 PE13, 67 PE14, 68 PE15, 69 PB10, 70 PB11, 71 VCAP_1, 72 VDD_6, 73 PB12, 74 PB13, 75 PB14, 76 PB15, 77 PD8, 78 PD9, 79 PD10, 80 PD11, 81 PD12, 82 PD13, 83 VSS_5, 84 VDD_7, 85 PD14, 86 PD15, 87 PG2, 88 PG3, 89 PG4, 90 PG5, 91 PG6, 92 PG7, 93 PG8, 94 VSS_6, 95 VDD33USB, 96 PC6, 97 PC7, 98 PC8, 99 PC9, 100 PA8, 101 PA9, 102 PA10, 103 PA11, 104 PA12, 105 PA13, 106 VCAP_2, 107 VSS_7, 108 VDD_8, 109 PA14, 110 PA15, 111 PC10, 112 PC11, 113 PC12, 114 PD0, 115 PD1, 116 PD2, 117 PD3, 118 PD4, 119 PD5, 120 VSS_8, 121 VDD_9, 122 PD6, 123 PD7, 124 PG9, 125 PG10, 126 PG11, 127 PG12, 128 PG13, 129 PG14, 130 VSS_9, 131 VDD_10, 132 PG15, 133 PB3, 134 PB4, 135 PB5, 136 PB6, 137 PB7, 138 BOOT0, 139 PB8, 140 PB9, 141 PE0, 142 PE1, 143 PDR_ON, 144 VDD_11

## STM32H750VBT6
designator IC?
Integrated Circuit; Manufacturer_Name: STMicroelectronics; Manufacturer_Part_Number: STM32H750VBT6; Datasheet Link: https://www.st.com/resource/en/datasheet/stm32h750vb.pdf; Height: 1.6mm; Mouser Part Number: 511-STM32H750VBT6; Mouser Price/Stock: https://www.mouser.co.uk/ProductDetail/STMicroelectronics/STM32H750VBT6?qs=%252BEew9%252B0nqrBAeuu%2FsQQSzQ%3D%3D; Arrow Part Number: STM32H750VBT6; Arrow Price/Stock: https://www.arrow.com/en/products/stm32h750vbt6/stmicroelectronics?region=nac
footprint QFP50P1600X1600X160-100N
pins: 1 PE2, 2 PE3, 3 PE4, 4 PE5, 5 PE6, 6 VBAT, 7 PC13, 8 PC14-OSC32_IN, 9 PC15-OSC32_OUT, 10 VSS_1, 11 VDD_1, 12 PH0-OSC_IN, 13 PH1-OSC_OUT, 14 NRST, 15 PC0, 16 PC1, 17 PC2_C, 18 PC3_C, 19 VSSA, 20 VREF+, 21 VDDA, 22 PA0, 23 PA1, 24 PA2, 25 PA3, 26 VSS_2, 27 VDD_2, 28 PA4, 29 PA5, 30 PA6, 31 PA7, 32 PC4, 33 PC5, 34 PB0, 35 PB1, 36 PB2, 37 PE7, 38 PE8, 39 PE9, 40 PE10, 41 PE11, 42 PE12, 43 PE13, 44 PE14, 45 PE15, 46 PB10, 47 PB11, 48 VCAP_1, 49 VSS_3, 50 VDD_3, 51 PB12, 52 PB13, 53 PB14, 54 PB15, 55 PD8, 56 PD9, 57 PD10, 58 PD11, 59 PD12, 60 PD13, 61 PD14, 62 PD15, 63 PC6, 64 PC7, 65 PC8, 66 PC9, 67 PA8, 68 PA9, 69 PA10, 70 PA11, 71 PA12, 72 PA13, 73 VCAP_2, 74 VSS_4, 75 VDD_4, 76 PA14, 77 PA15, 78 PC10, 79 PC11, 80 PC12, 81 PD0, 82 PD1, 83 PD2, 84 PD3, 85 PD4, 86 PD5, 87 PD6, 88 PD7, 89 PB3, 90 PB4, 91 PB5, 92 PB6, 93 PB7, 94 BOOT0, 95 PB8, 96 PB9, 97 PE0, 98 PE1, 99 VSS_5, 100 VDD_5

## Tact_sw_3x6
designator SW?
footprint Tact_SW_3x6
pins: 1, 2

## TestPoint
designator TP?
footprint TESTPOINT
footprint TESTPOINT_VIA
footprint TESTPOINT_PAD
pins: 1 12

## TrimPot
designator R?
footprint TRIMPOT
pins: 1, 2, 3

## TYPE-C-31-M-12
designator J?
USB Connectors 24 Receptacle 1 8.94*7.3mm RoHS; MF: {'manufacturer': u'HRO Electronics Co., Ltd.'}; MP: TYPE-C-31-M-12; Package: None; Price: None; Value: *; Availability: Unavailable
footprint HRO_TYPE-C-31-M-12
footprint HRO_TYPE-C-31-M-12 - REZONIT
pins: A1B12 GND (power), A4B9 VBUS (power), A5 CC1 (io), A6 DP1 (io), A7 DN1 (io), A8 SBU1 (io), B1A12 GND (power), B4A9 VBUS (power), B5 CC2 (io), B6 DP2 (io), B7 DN2 (io), B8 SBU2 (io), S1 SHIELD, S2 SHIELD, S3 SHIELD, S4 SHIELD

## USB3080-XX-01-A_REVE
designator J?
USB Series Bottom Surface Mount Right Angle Micro USB B Type Connector; MP: USB3080-30-01-A; MF: Global Connector Technology; Price: 0.39 USD; Package: None; Availability: Good; Value: *
footprint GCT_USB3080-XX-01-A_REVE
pins: 1 VBUS (power), 2 D- (io), 3 D+ (io), 4 ID (io), 5 GND (power), 6 SHIELD (power), 6 SHIELD (power), 6 SHIELD (power), 6 SHIELD (power)

## USB_TypeB
designator J?, comment UJ2-BH-2-TH
USB jack 2.0, standard B type, 4 pin, horizontal, 6 Вµin plating, through hole; MF: CUI; Package: None; SnapEDA_Link: https://www.snapeda.com/parts/UJ2-BH-2-TH/CUI/view-part/?ref=snap; MP: UJ2-BH-2-TH; Availability: Good; Price: 0.56 USD; Value: *
footprint USB_type_B
pins: 1 Vbus, 2 D-, 3 D+, 4 GND, SH1 SHIELD, SH2 SHIELD

## USBLC6-2
designator U?
Very Low Capacitance Esd Protection; MF: STMicroelectronics; Availability: Unavailable; Price: None; Package: SOT-563 STMicroelectronics; MP: USBLC6-2; Value: *; helpurl: https://lib.chipdip.ru/093/DOC001093117.pdf
footprint SOT-23-6
footprint SOT-666
pins: 1 (io), 2 (power), 3 (io), 4 (io), 5 (power), 6 (io)

## W25Q40EWSNIG
designator IC?
Integrated Circuit; Manufacturer_Name: Winbond; Manufacturer_Part_Number: W25Q40EWSNIG; Datasheet Link: http://www.winbond.com/resource-files/w25q40ew-revh-01162017-sfdp.pdf; Height: 1.75mm; Mouser Part Number: 454-W25Q40EWSNIG; Mouser Price/Stock: https://www.mouser.co.uk/ProductDetail/Winbond/W25Q40EWSNIG?qs=qSfuJ%252Bfl%2Fd6zSAW9QMGVXA%3D%3D; Arrow Part Number: W25Q40EWSNIG; Arrow Price/Stock: https://www.arrow.com/en/products/w25q40ewsnig/winbond-electronics
footprint SOIC127P600X175-8N
pins: 1 ~{CS}, 2 DO_(IO1), 3 ~{WP_(IO2)}, 4 GND, 5 DI_(IO0), 6 CLK, 7 ~{HOLD_(IO3)}, 8 VCC

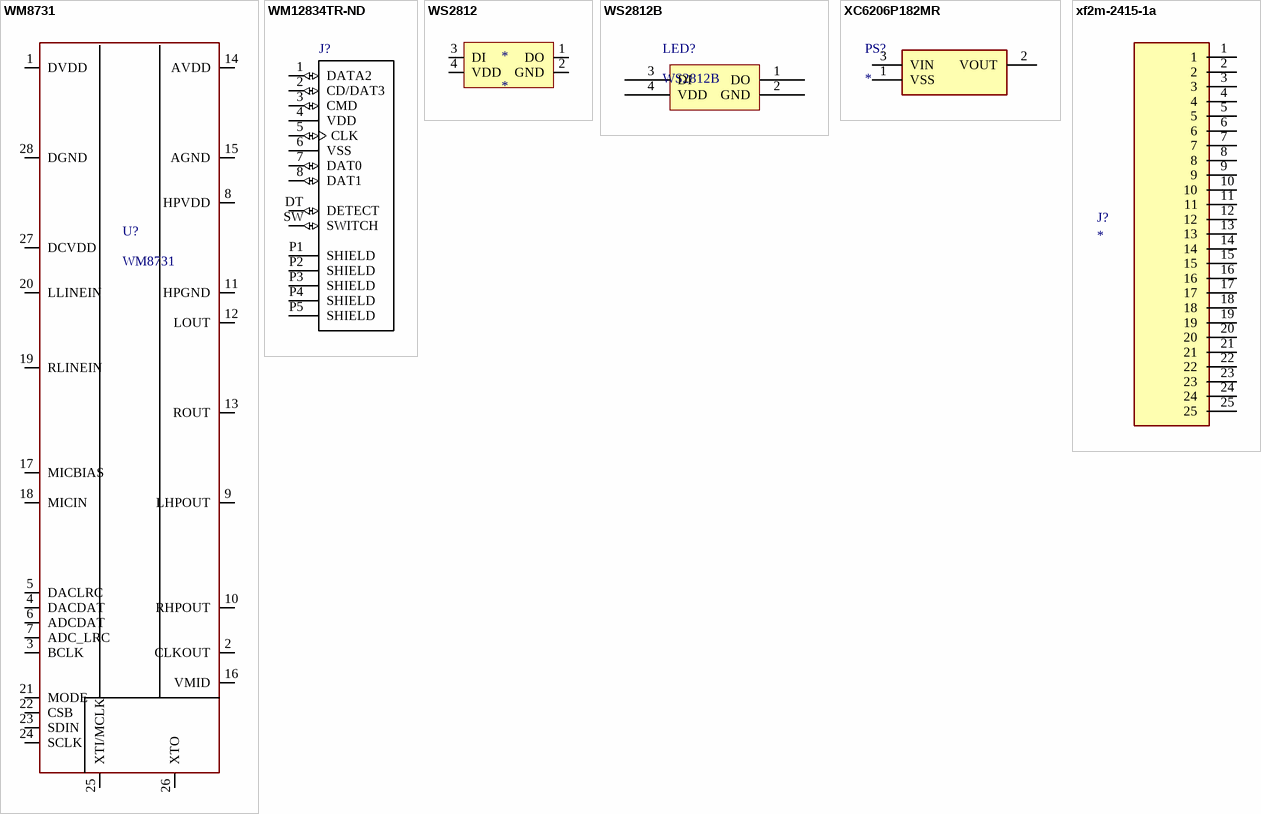
[diagram p3: symbols WM8731 to xf2m-2415-1a]

## WM8731
designator U?
Stero in/ot audio codec
footprint TSSOP-28
pins: 1 DVDD, 2 CLKOUT, 3 BCLK, 4 DACDAT, 5 DACLRC, 6 ADCDAT, 7 ADC_LRC, 8 HPVDD, 9 LHPOUT, 10 RHPOUT, 11 HPGND, 12 LOUT, 13 ROUT, 14 AVDD, 15 AGND, 16 VMID, 17 MICBIAS, 18 MICIN, 19 RLINEIN, 20 LLINEIN, 21 MODE, 22 CSB, 23 SDIN, 24 SCLK, 25 XTI/MCLK, 26 XTO, 27 DCVDD, 28 DGND

## WM12834TR-ND
designator J?, comment 503182-1852  (value not drawn)
MICRO SD NORMAL ULTRALOWPRO8CKTE; MF: Molex; MP: 5031821852; Package: None; Availability: Unavailable; SnapEDA_Link: https://www.snapeda.com/parts/5031821852/Molex/view-part/?ref=snap; Price: None; Value: *
footprint WM12834TR-ND
pins: 1 DATA2 (io), 2 CD/DAT3 (io), 3 CMD (io), 4 VDD (power), 5 CLK (io), 6 VSS (power), 7 DAT0 (io), 8 DAT1 (io), DT DETECT (io), P1 SHIELD, P2 SHIELD, P3 SHIELD, P4 SHIELD, P5 SHIELD, SW SWITCH (io)

## WS2812
designator *
footprint WS2812_2020
pins: 1 DO, 2 GND, 3 DI, 4 VDD

## WS2812B
designator LED?
Address LED
footprint WS2812B_5050
footprint WS2812B_2.2x2mm
pins: 1 DO, 2 GND, 3 DI, 4 VDD

## XC6206P182MR
designator PS?
Power Supply; Manufacturer_Name: Torex; Manufacturer_Part_Number: XC6206P182MR; Datasheet Link: https://componentsearchengine.com/Datasheets/2/XC6206P182MR.pdf; Height: 1.3mm
footprint SOT95P280X130-3N
pins: 1 VSS, 2 VOUT, 3 VIN

## xf2m-2415-1a
designator J?
Connector; Manufacturer_Name: Omron Electronics; Manufacturer_Part_Number: xf2m-2415-1a; Datasheet Link: http://docs-emea.rs-online.com/webdocs/0fd2/0900766b80fd28a0.pdf; Mouser Part Number: 653-XF2M-2415-1A; Mouser Price/Stock: https://www.mouser.co.uk/ProductDetail/Omron-Electronics/XF2M-2415-1A?qs=RIpVvizQEW8HxRPVlRNgGg%3D%3D; Arrow Part Number: XF2M-2415-1A; Arrow Price/Stock: https://www.arrow.com/en/products/xf2m-2415-1a/omron
footprint XF2M-2415-1A
pins: 1, 2, 3, 4, 5, 6, 7, 8, 9, 10, 11, 12, 13, 14, 15, 16, 17, 18, 19, 20, 21, 22, 23, 24, 25